# Altium footprint library 二极管.PcbLib: 5 footprints
Each footprint in its own frame and in the unit in brackets; x right, y up, seen from the top. Pads: shape width x height; smd on the part's side, far side on the other; paste and mask are expansions set on the pad; w line width, h text height; cw(c..) or ccw(c..) is an arc to the next point about the centre after c.
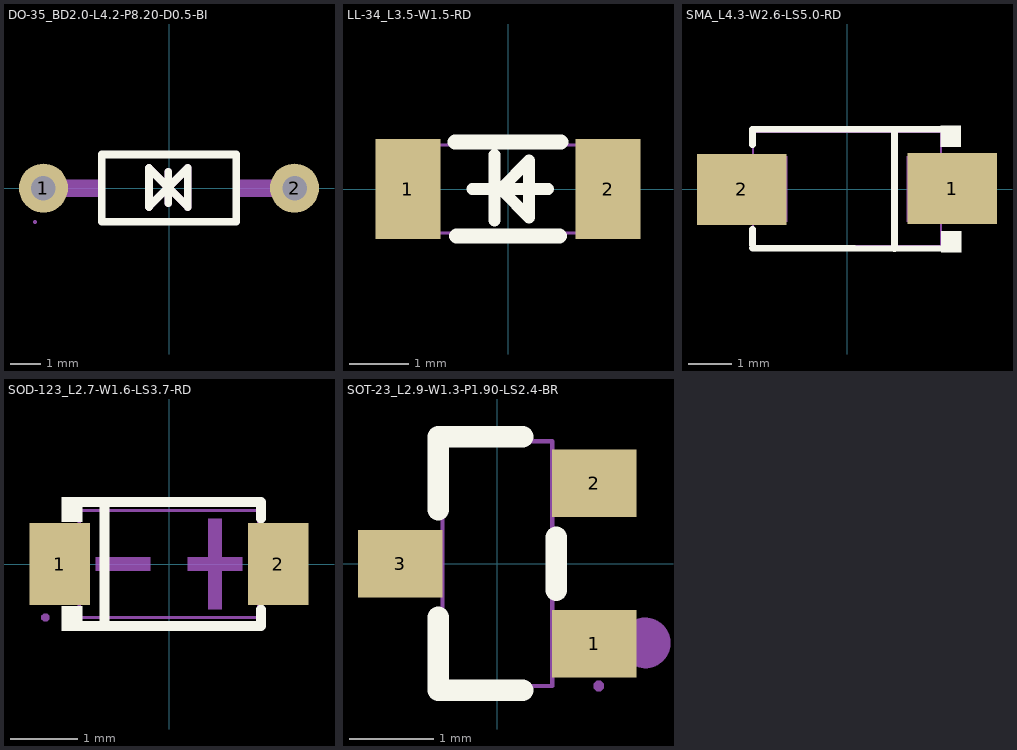
[diagram p0: the footprints below, top view; thin cyan lines are the x and y axes]

## DO-35_BD2.0-L4.2-P8.20-D0.5-BI [mm]
pads (2):
  round 1.6 hole 0.8: 1(-4.1,0) 2(4.1,0)
Top Overlay:
  lines w0.254: -0.022,-0.486 -0.022,0.53 ; -2.2,-1.1 2.2,-1.1 2.2,1.1 -2.2,1.1 -2.2,-1.1 ; -0.657,-0.613 0.613,0.657 0.613,-0.613 -0.657,0.657 -0.657,-0.613
Mechanical 6:
  lines w0.254: -0.022,-0.486 -0.022,0.53 ; -0.657,-0.613 0.613,0.657 0.613,-0.613 -0.657,0.657 -0.657,-0.613
Mechanical 15:
  region: -4.32,-1.1 -4.321,-1.076 -4.356,-1.043 -4.404,-1.043 -4.439,-1.076 -4.44,-1.1 -4.439,-1.124 -4.404,-1.157 -4.356,-1.157 -4.321,-1.124
  region: 4.38,0 4.38,0.056 4.337,0.159 4.259,0.237 4.156,0.28 4.044,0.28 3.941,0.237 3.863,0.159 3.82,0.056 3.82,0 3.82,-0.056 3.863,-0.159 3.941,-0.237 4.044,-0.28 4.156,-0.28 4.259,-0.237 4.337,-0.159 4.38,-0.056
  region: -3.82,0 -3.82,0.056 -3.863,0.159 -3.942,0.237 -4.044,0.28 -4.156,0.28 -4.259,0.237 -4.338,0.159 -4.38,0.056 -4.38,0 -4.38,-0.056 -4.337,-0.159 -4.259,-0.237 -4.156,-0.28 -4.044,-0.28 -3.941,-0.237 -3.863,-0.159 -3.82,-0.056
  region: 4.38,0.28 4.38,-0.28 2.14,-0.28 2.14,0.28
  region: -4.38,-0.28 -4.38,0.28 -2.14,0.28 -2.14,-0.28
  lines w0.051: -2.2,-1.1 2.2,-1.1 2.2,1.1 -2.2,1.1 -2.2,-1.1
3D body "D1.step": height 2.01, standoff -5, extent -4.35,-0.993 4.35,0.993

## LL-34_L3.5-W1.5-RD [mm]
pads (2):
  rect 1.1x1.7 smd: 1(-1.7,0) 2(1.7,0)
Top Overlay:
  lines w0.2: -0.61,0 0.686,0 ; -0.229,-0.533 -0.229,0.584 ; -0.127,0 0.356,0.483 0.356,-0.483 -0.102,-0.025
  lines w0.254: -0.9,0.8 0.9,0.8 ; -0.878,-0.8 0.878,-0.8
Mechanical 6:
  region: 1.604,-0.335 1.604,0.326 1.782,0.326 1.782,-0.335
  region: 2.035,-0.096 1.374,-0.096 1.374,0.082 2.035,0.082
  region: -1.365,-0.096 -2.026,-0.096 -2.026,0.082 -1.365,0.082
Mechanical 15:
  region: -1.686,-0.75 -1.687,-0.726 -1.722,-0.692 -1.77,-0.692 -1.805,-0.726 -1.806,-0.75 -1.805,-0.774 -1.77,-0.808 -1.722,-0.808 -1.687,-0.774
  region: 1.754,-0.75 1.354,-0.75 1.354,0.75 1.754,0.75
  region: -1.346,-0.75 -1.746,-0.75 -1.746,0.75 -1.346,0.75
  lines w0.051: -1.746,-0.75 -1.746,0.75 1.754,0.75 1.754,-0.75 -1.746,-0.75
3D body "二极管.step": height 1.5, standoff 0, extent -1.701,-0.745 1.702,0.745

## SMA_L4.3-W2.6-LS5.0-RD [mm]
pads (2):
  rect 2.046x1.62 smd: 1(2.404,0.009) 2(-2.404,-0.009)
Top Overlay:
  region: 2.158,-1.44 2.158,-0.962 2.615,-0.962 2.615,-1.44
  region: 2.145,1.44 2.145,0.962 2.602,0.962 2.602,1.44
  lines w0.152: -2.165,1.364 2.504,1.364 ; -2.159,-1.346 2.526,-1.364 ; -2.159,-1.27 -2.159,-0.919 ; -2.159,1.013 -2.159,1.364 ; 1.085,-1.364 1.085,1.364
Mechanical 6:
  region: 2.432,0.097 2.432,-0.097 1.659,-0.097 1.659,0.097
  region: -2.432,0.097 -2.432,-0.097 -1.659,-0.097 -1.659,0.097
  region: -2.142,0.644 -2.142,-0.644 -1.949,-0.644 -1.949,0.644
Mechanical 15:
  region: 2.44,1.3 2.44,1.275 2.475,1.24 2.525,1.24 2.56,1.275 2.56,1.3 2.56,1.325 2.525,1.36 2.475,1.36 2.44,1.325
  region: -2.5,0.75 -2.5,-0.75 -1.36,-0.75 -1.36,0.75
  region: 2.5,-0.75 2.5,0.75 1.36,0.75 1.36,-0.75
  lines w0.051: -2.15,-1.3 2.15,-1.3 2.15,1.3 -2.15,1.3 -2.15,-1.3
3D body "DO-214AC.STEP": height 2.4, standoff 0, extent -2.3,-1.35 2.3,1.35

## SOD-123_L2.7-W1.6-LS3.7-RD [mm]
pads (2):
  rect 0.91x1.22 smd: 1(-1.635,0) 2(1.635,0)
Top Overlay:
  region: -1.3,-1.002 -1.3,-0.632 -1.605,-0.632 -1.605,-1.002
  region: -1.3,1.002 -1.3,0.632 -1.605,0.632 -1.605,1.002
  lines w0.152: -1.376,-0.926 1.376,-0.926 1.376,-0.683 ; -1.376,0.926 1.376,0.926 1.376,0.683 ; -0.967,-0.926 -0.967,0.926
Mechanical 6:
  region: 0.79,0.68 0.79,-0.68 0.586,-0.68 0.586,0.68
  region: 1.096,0.102 1.096,-0.102 0.28,-0.102 0.28,0.102
  region: -1.096,0.102 -1.096,-0.102 -0.28,-0.102 -0.28,0.102
Mechanical 15:
  region: -1.81,-0.3 -1.33,-0.3 -1.33,0.3 -1.81,0.3
  region: 1.81,0.3 1.33,0.3 1.33,-0.3 1.81,-0.3
  region: 1.595,0.3 1.845,0.3 1.845,-0.3 1.595,-0.3
  region: -1.845,0.3 -1.595,0.3 -1.595,-0.3 -1.845,-0.3
  region: -1.79,-0.8 -1.791,-0.776 -1.826,-0.742 -1.874,-0.742 -1.909,-0.776 -1.91,-0.8 -1.909,-0.824 -1.874,-0.858 -1.826,-0.858 -1.791,-0.824
  lines w0.051: -1.345,-0.8 1.345,-0.8 1.345,0.8 -1.345,0.8 -1.345,-0.8
3D body "yfZ4-D2.step": height 1.31, standoff 0.01, extent -1.85,-0.8 1.85,0.8

## SOT-23_L2.9-W1.3-P1.90-LS2.4-BR [mm]
pads (3):
  rect 1x0.8 smd: 1(1.15,-0.95) 2(1.15,0.95) 3(-1.15,0)
Top Overlay:
  lines w0.254: -0.7,-0.636 -0.7,-1.5 0.3,-1.5 ; -0.7,0.636 -0.7,1.5 0.3,1.5 ; 0.7,-0.314 0.7,0.314
Mechanical 6:
  circle w0.3: c1.753,-0.94 r0.15
Mechanical 15:
  region: 1.26,-1.45 1.26,-1.425 1.225,-1.39 1.175,-1.39 1.14,-1.425 1.14,-1.45 1.14,-1.475 1.175,-1.51 1.225,-1.51 1.26,-1.475
  region: 0.64,-1.15 0.64,-0.75 0.81,-0.75 0.81,-1.15
  region: 0.8,-1.15 0.8,-0.75 1.2,-0.75 1.2,-1.15
  region: 0.64,0.75 0.64,1.15 0.81,1.15 0.81,0.75
  region: 0.8,0.75 0.8,1.15 1.2,1.15 1.2,0.75
  region: -0.81,-0.2 -0.81,0.2 -0.64,0.2 -0.64,-0.2
  region: -1.2,-0.2 -1.2,0.2 -0.8,0.2 -0.8,-0.2
  lines w0.051: -0.65,-1.45 -0.65,1.45 0.65,1.45 0.65,-1.45 -0.65,-1.45
3D body "SOT23-3.STEP": height 1.05, standoff 0, extent -1.13,-1.5 1.27,1.5